# Altium footprint library con-omron.PCBLIB: 109 footprints (part 6 of 8)
Each footprint in its own frame and in the unit in brackets; x right, y up, seen from the top. Pads: shape width x height; smd on the part's side, far side on the other; paste and mask are expansions set on the pad; w line width, h text height; cw(c..) or ccw(c..) is an arc to the next point about the centre after c.
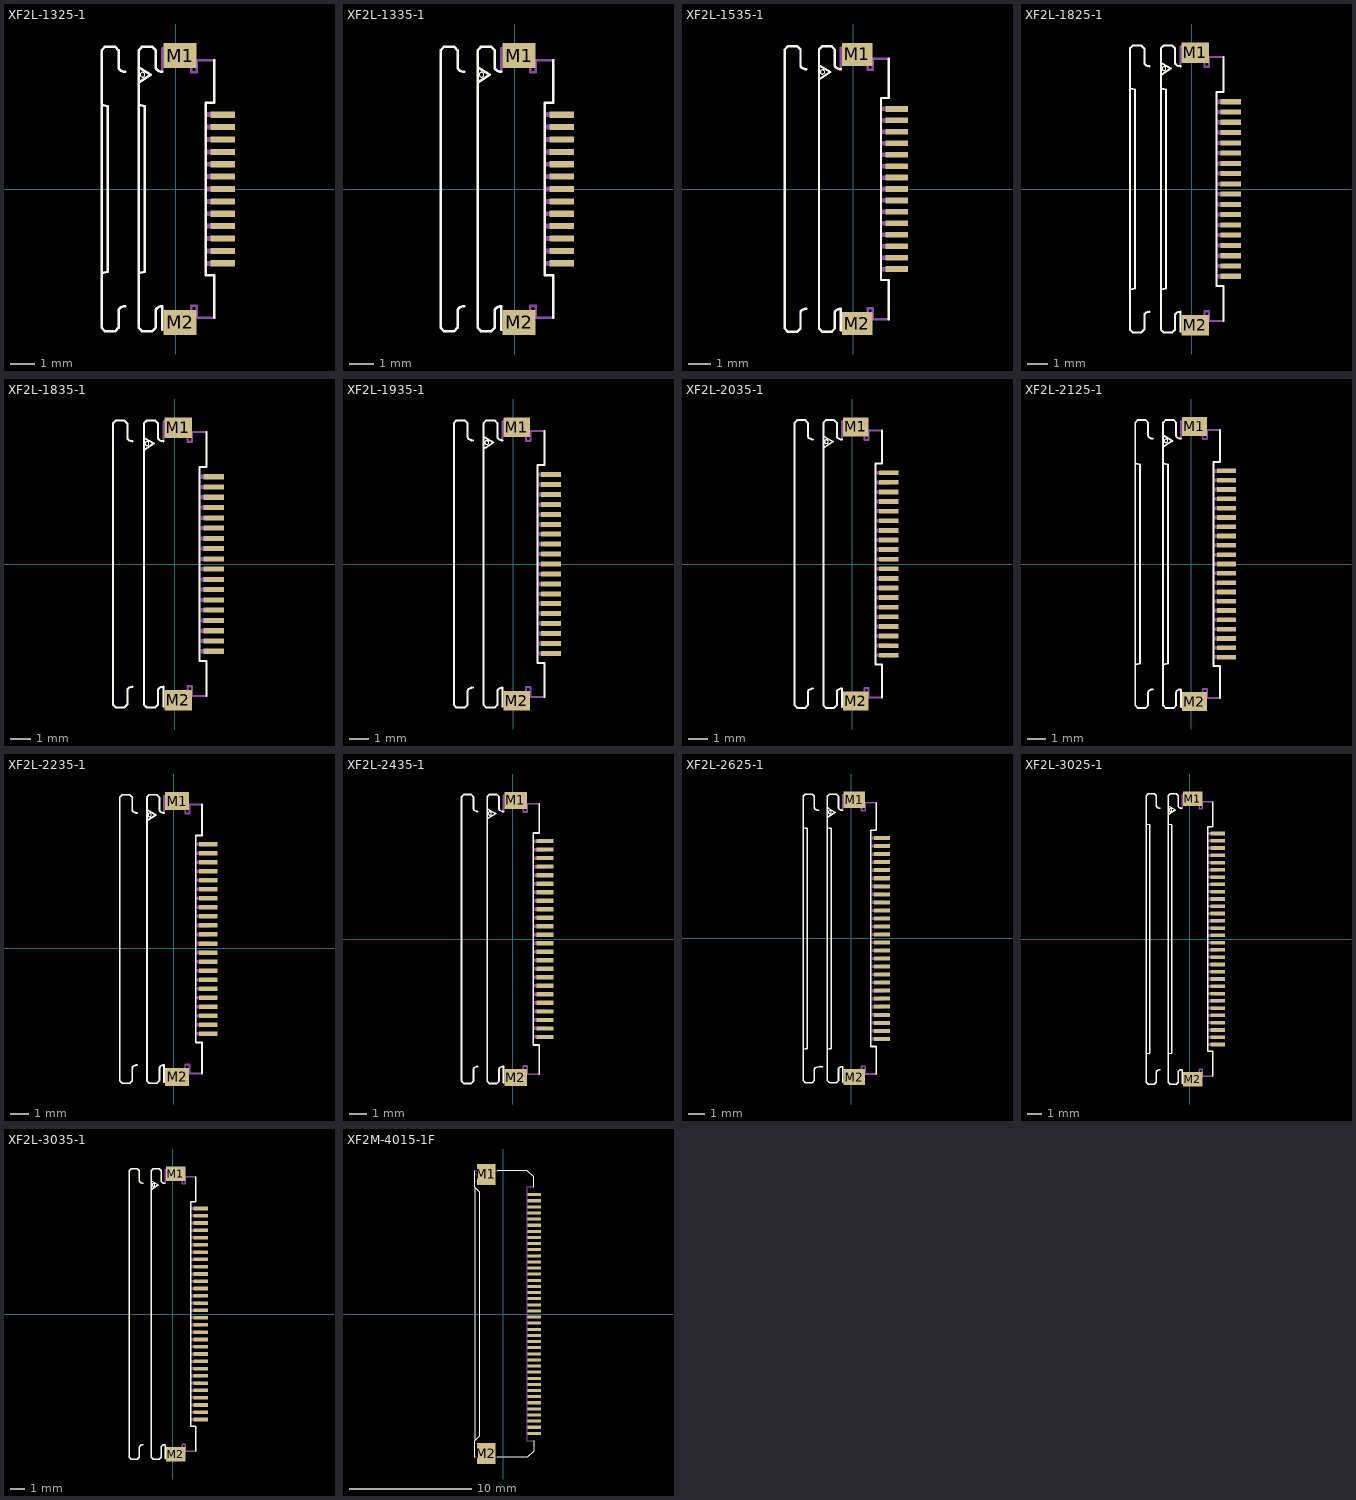
[diagram p5: the footprints below, top view; thin cyan lines are the x and y axes]

## XF2L-1325-1 [mm]
pads (15):
  rect 1x0.25 smd: 1(1.905,3) 2(1.905,2.5) 3(1.905,2) 4(1.905,1.5) 5(1.905,1) 6(1.905,0.5) 7(1.905,0) 8(1.905,-0.5) 9(1.905,-1) 10(1.905,-1.5) 11(1.905,-2) 12(1.905,-2.5) 13(1.905,-3)
  rect 1.34x1 smd: M1(0.18,5.388) M2(0.18,-5.388)
Top Overlay:
  circle w0: c-1.341,4.617 r0.095
  lines w0.102: -2.995,-3.4 -2.745,-3.35 -2.745,3.35 -2.995,3.4 ; -2.04,-4.73 ccw(c-2.04,-5.069) -2.253,-4.806 ccw(c-2.173,-4.906) -2.301,-4.906 -2.301,-5.598 -2.438,-5.735 -2.865,-5.735 -2.995,-5.6 -2.995,5.6 -2.865,5.735 -2.438,5.735 -2.301,5.598 -2.301,4.906 ccw(c-2.173,4.906) -2.253,4.806 ccw(c-2.04,5.069) -2.04,4.73 ; -1.495,-3.4 -1.245,-3.35 -1.245,3.35 -1.495,3.4 ; -1.441,4.332 -1.005,4.617 -1.441,4.872 ; -0.54,-5.683 -0.54,-4.73 ccw(c-0.54,-5.069) -0.754,-4.806 ccw(c-0.673,-4.906) -0.801,-4.906 -0.801,-5.598 -0.939,-5.735 -1.365,-5.735 -1.495,-5.6 -1.495,5.6 -1.365,5.735 -0.939,5.735 -0.801,5.598 -0.801,4.906 ccw(c-0.673,4.906) -0.754,4.806 ccw(c-0.54,5.069) -0.54,4.73 ; 1.538,3.479 1.213,3.479 1.213,-3.479 1.559,-3.479 1.559,-5.19 ; 1.559,3.479 1.559,5.19
Top Solder:
  rectangle: 1.355,2.825 2.455,3.175
  rectangle: 1.355,2.325 2.455,2.675
  rectangle: 1.355,1.825 2.455,2.175
  rectangle: 1.355,1.325 2.455,1.675
  rectangle: 1.355,0.825 2.455,1.175
  rectangle: 1.355,0.325 2.455,0.675
  rectangle: 1.355,-0.175 2.455,0.175
  rectangle: 1.355,-0.675 2.455,-0.325
  rectangle: 1.355,-1.175 2.455,-0.825
  rectangle: 1.355,-1.675 2.455,-1.325
  rectangle: 1.355,-2.175 2.455,-1.825
  rectangle: 1.355,-2.675 2.455,-2.325
  rectangle: 1.355,-3.175 2.455,-2.825
Mechanical 16:
  rectangle: 0.105,-5.7 0.805,-5.175
  rectangle: -0.445,-5.7 0.105,-4.9
  rectangle: 0.105,-5.7 0.805,-5.175
  rectangle: -0.445,-5.7 0.105,-4.9
  rectangle: 0.105,5.175 0.805,5.7
  rectangle: -0.445,4.9 0.105,5.7
  rectangle: 1.255,2.9 1.98,3.1
  rectangle: 1.255,2.4 1.98,2.6
  rectangle: 1.255,1.9 1.98,2.1
  rectangle: 1.255,1.4 1.98,1.6
  rectangle: 1.255,0.9 1.98,1.1
  rectangle: 1.255,0.4 1.98,0.6
  rectangle: 1.255,-0.1 1.98,0.1
  rectangle: 1.255,-0.6 1.98,-0.4
  rectangle: 1.255,-1.1 1.98,-0.9
  rectangle: 1.255,-1.6 1.98,-1.4
  rectangle: 1.255,-2.1 1.98,-1.9
  rectangle: 1.255,-2.6 1.98,-2.4
  rectangle: 1.255,-3.1 1.98,-2.9
  lines w0.102: -0.54,-5.683 0.512,-5.683 0.512,-5.2 -0.019,-5.2 -0.019,-5.053 0.63,-5.053 0.63,-4.707 0.858,-4.707 0.858,-5.19 1.559,-5.19 ; -0.54,4.73 -0.54,5.683 0.512,5.683 0.512,5.2 -0.019,5.2 -0.019,5.053 0.63,5.053 0.63,4.707 0.858,4.707 0.858,5.19 1.559,5.19
  text "Upper-contact" at -0.5,4.25 h0.35

## XF2L-1335-1 [mm]
pads (15):
  rect 1x0.25 smd: 1(1.905,3) 2(1.905,2.5) 3(1.905,2) 4(1.905,1.5) 5(1.905,1) 6(1.905,0.5) 7(1.905,0) 8(1.905,-0.5) 9(1.905,-1) 10(1.905,-1.5) 11(1.905,-2) 12(1.905,-2.5) 13(1.905,-3)
  rect 1.34x1 smd: M1(0.18,5.388) M2(0.18,-5.388)
Top Overlay:
  circle w0: c-1.341,4.617 r0.095
  lines w0.102: -2.04,-4.73 ccw(c-2.04,-5.069) -2.253,-4.806 ccw(c-2.173,-4.906) -2.301,-4.906 -2.301,-5.598 -2.438,-5.735 -2.865,-5.735 -2.995,-5.6 -2.995,5.6 -2.865,5.735 -2.438,5.735 -2.301,5.598 -2.301,4.906 ccw(c-2.173,4.906) -2.253,4.806 ccw(c-2.04,5.069) -2.04,4.73 ; -1.441,4.332 -1.005,4.617 -1.441,4.872 ; -0.54,-5.683 -0.54,-4.73 ccw(c-0.54,-5.069) -0.754,-4.806 ccw(c-0.673,-4.906) -0.801,-4.906 -0.801,-5.598 -0.939,-5.735 -1.365,-5.735 -1.495,-5.6 -1.495,5.6 -1.365,5.735 -0.939,5.735 -0.801,5.598 -0.801,4.906 ccw(c-0.673,4.906) -0.754,4.806 ccw(c-0.54,5.069) -0.54,4.73 ; 1.538,3.479 1.213,3.479 1.213,-3.479 1.559,-3.479 1.559,-5.19 ; 1.559,3.479 1.559,5.19
Top Solder:
  rectangle: 1.355,2.825 2.455,3.175
  rectangle: 1.355,2.325 2.455,2.675
  rectangle: 1.355,1.825 2.455,2.175
  rectangle: 1.355,1.325 2.455,1.675
  rectangle: 1.355,0.825 2.455,1.175
  rectangle: 1.355,0.325 2.455,0.675
  rectangle: 1.355,-0.175 2.455,0.175
  rectangle: 1.355,-0.675 2.455,-0.325
  rectangle: 1.355,-1.175 2.455,-0.825
  rectangle: 1.355,-1.675 2.455,-1.325
  rectangle: 1.355,-2.175 2.455,-1.825
  rectangle: 1.355,-2.675 2.455,-2.325
  rectangle: 1.355,-3.175 2.455,-2.825
Mechanical 16:
  rectangle: 0.105,-5.7 0.805,-5.175
  rectangle: -0.445,-5.7 0.105,-4.9
  rectangle: 0.105,-5.7 0.805,-5.175
  rectangle: -0.445,-5.7 0.105,-4.9
  rectangle: 0.105,5.175 0.805,5.7
  rectangle: -0.445,4.9 0.105,5.7
  rectangle: 1.255,2.9 1.98,3.1
  rectangle: 1.255,2.4 1.98,2.6
  rectangle: 1.255,1.9 1.98,2.1
  rectangle: 1.255,1.4 1.98,1.6
  rectangle: 1.255,0.9 1.98,1.1
  rectangle: 1.255,0.4 1.98,0.6
  rectangle: 1.255,-0.1 1.98,0.1
  rectangle: 1.255,-0.6 1.98,-0.4
  rectangle: 1.255,-1.1 1.98,-0.9
  rectangle: 1.255,-1.6 1.98,-1.4
  rectangle: 1.255,-2.1 1.98,-1.9
  rectangle: 1.255,-2.6 1.98,-2.4
  rectangle: 1.255,-3.1 1.98,-2.9
  lines w0.102: -0.54,-5.683 0.512,-5.683 0.512,-5.2 -0.019,-5.2 -0.019,-5.053 0.63,-5.053 0.63,-4.707 0.858,-4.707 0.858,-5.19 1.559,-5.19 ; -0.54,4.73 -0.54,5.683 0.512,5.683 0.512,5.2 -0.019,5.2 -0.019,5.053 0.63,5.053 0.63,4.707 0.858,4.707 0.858,5.19 1.559,5.19
  text "Lower-contact" at -0.5,4.25 h0.35

## XF2L-1535-1 [mm]
pads (17):
  rect 1x0.25 smd: 1(1.905,3.5) 2(1.905,3) 3(1.905,2.5) 4(1.905,2) 5(1.905,1.5) 6(1.905,1) 7(1.905,0.5) 8(1.905,0) 9(1.905,-0.5) 10(1.905,-1) 11(1.905,-1.5) 12(1.905,-2) 13(1.905,-2.5) 14(1.905,-3) 15(1.905,-3.5)
  rect 1.34x1 smd: M1(0.18,5.887) M2(0.18,-5.887)
Top Overlay:
  circle w0: c-1.341,5.117 r0.095
  lines w0.102: -2.04,-5.23 ccw(c-2.04,-5.569) -2.253,-5.306 ccw(c-2.173,-5.406) -2.301,-5.406 -2.301,-6.098 -2.438,-6.235 -2.865,-6.235 -2.995,-6.1 -2.995,6.1 -2.865,6.235 -2.438,6.235 -2.301,6.098 -2.301,5.406 ccw(c-2.173,5.406) -2.253,5.306 ccw(c-2.04,5.569) -2.04,5.23 ; -1.441,4.832 -1.005,5.117 -1.441,5.373 ; -0.54,-6.183 -0.54,-5.23 ccw(c-0.54,-5.569) -0.754,-5.306 ccw(c-0.673,-5.406) -0.801,-5.406 -0.801,-6.098 -0.939,-6.235 -1.365,-6.235 -1.495,-6.1 -1.495,6.1 -1.365,6.235 -0.939,6.235 -0.801,6.098 -0.801,5.406 ccw(c-0.673,5.406) -0.754,5.306 ccw(c-0.54,5.569) -0.54,5.23 ; 1.538,3.979 1.213,3.979 1.213,-3.979 1.559,-3.979 1.559,-5.69 ; 1.559,3.979 1.559,5.69
Top Solder:
  rectangle: 1.355,3.325 2.455,3.675
  rectangle: 1.355,2.825 2.455,3.175
  rectangle: 1.355,2.325 2.455,2.675
  rectangle: 1.355,1.825 2.455,2.175
  rectangle: 1.355,1.325 2.455,1.675
  rectangle: 1.355,0.825 2.455,1.175
  rectangle: 1.355,0.325 2.455,0.675
  rectangle: 1.355,-0.175 2.455,0.175
  rectangle: 1.355,-0.675 2.455,-0.325
  rectangle: 1.355,-1.175 2.455,-0.825
  rectangle: 1.355,-1.675 2.455,-1.325
  rectangle: 1.355,-2.175 2.455,-1.825
  rectangle: 1.355,-2.675 2.455,-2.325
  rectangle: 1.355,-3.175 2.455,-2.825
  rectangle: 1.355,-3.675 2.455,-3.325
Mechanical 16:
  rectangle: 0.105,-6.2 0.805,-5.675
  rectangle: -0.445,-6.2 0.105,-5.4
  rectangle: 0.105,-6.2 0.805,-5.675
  rectangle: -0.445,-6.2 0.105,-5.4
  rectangle: 0.105,5.675 0.805,6.2
  rectangle: -0.445,5.4 0.105,6.2
  rectangle: 1.255,3.4 1.98,3.6
  rectangle: 1.255,2.9 1.98,3.1
  rectangle: 1.255,2.4 1.98,2.6
  rectangle: 1.255,1.9 1.98,2.1
  rectangle: 1.255,1.4 1.98,1.6
  rectangle: 1.255,0.9 1.98,1.1
  rectangle: 1.255,0.4 1.98,0.6
  rectangle: 1.255,-0.1 1.98,0.1
  rectangle: 1.255,-0.6 1.98,-0.4
  rectangle: 1.255,-1.1 1.98,-0.9
  rectangle: 1.255,-1.6 1.98,-1.4
  rectangle: 1.255,-2.1 1.98,-1.9
  rectangle: 1.255,-2.6 1.98,-2.4
  rectangle: 1.255,-3.1 1.98,-2.9
  rectangle: 1.255,-3.6 1.98,-3.4
  lines w0.102: -0.54,-6.183 0.512,-6.183 0.512,-5.7 -0.019,-5.7 -0.019,-5.553 0.63,-5.553 0.63,-5.207 0.858,-5.207 0.858,-5.69 1.559,-5.69 ; -0.54,5.23 -0.54,6.183 0.512,6.183 0.512,5.7 -0.019,5.7 -0.019,5.553 0.63,5.553 0.63,5.207 0.858,5.207 0.858,5.69 1.559,5.69
  text "Lower-contact" at -0.5,4.75 h0.35

## XF2L-1825-1 [mm]
pads (20):
  rect 1x0.25 smd: 1(1.905,4.25) 2(1.905,3.75) 3(1.905,3.25) 4(1.905,2.75) 5(1.905,2.25) 6(1.905,1.75) 7(1.905,1.25) 8(1.905,0.75) 9(1.905,0.25) 10(1.905,-0.25) 11(1.905,-0.75) 12(1.905,-1.25) 13(1.905,-1.75) 14(1.905,-2.25) 15(1.905,-2.75) 16(1.905,-3.25) 17(1.905,-3.75) 18(1.905,-4.25)
  rect 1.34x1 smd: M1(0.18,6.638) M2(0.18,-6.638)
Top Overlay:
  circle w0: c-1.341,5.867 r0.095
  lines w0.102: -2.995,-4.9 -2.745,-4.85 -2.745,4.85 -2.995,4.9 ; -2.04,-5.98 ccw(c-2.04,-6.319) -2.253,-6.056 ccw(c-2.173,-6.156) -2.301,-6.156 -2.301,-6.848 -2.438,-6.985 -2.865,-6.985 -2.995,-6.85 -2.995,6.85 -2.865,6.985 -2.438,6.985 -2.301,6.848 -2.301,6.156 ccw(c-2.173,6.156) -2.253,6.056 ccw(c-2.04,6.319) -2.04,5.98 ; -1.495,-4.9 -1.245,-4.85 -1.245,4.85 -1.495,4.9 ; -1.441,5.582 -1.005,5.867 -1.441,6.123 ; -0.54,-6.933 -0.54,-5.98 ccw(c-0.54,-6.319) -0.754,-6.056 ccw(c-0.673,-6.156) -0.801,-6.156 -0.801,-6.848 -0.939,-6.985 -1.365,-6.985 -1.495,-6.85 -1.495,6.85 -1.365,6.985 -0.939,6.985 -0.801,6.848 -0.801,6.156 ccw(c-0.673,6.156) -0.754,6.056 ccw(c-0.54,6.319) -0.54,5.98 ; 1.538,4.729 1.213,4.729 1.213,-4.729 1.559,-4.729 1.559,-6.44 ; 1.559,4.729 1.559,6.44
Top Solder:
  rectangle: 1.355,4.075 2.455,4.425
  rectangle: 1.355,3.575 2.455,3.925
  rectangle: 1.355,3.075 2.455,3.425
  rectangle: 1.355,2.575 2.455,2.925
  rectangle: 1.355,2.075 2.455,2.425
  rectangle: 1.355,1.575 2.455,1.925
  rectangle: 1.355,1.075 2.455,1.425
  rectangle: 1.355,0.575 2.455,0.925
  rectangle: 1.355,0.075 2.455,0.425
  rectangle: 1.355,-0.425 2.455,-0.075
  rectangle: 1.355,-0.925 2.455,-0.575
  rectangle: 1.355,-1.425 2.455,-1.075
  rectangle: 1.355,-1.925 2.455,-1.575
  rectangle: 1.355,-2.425 2.455,-2.075
  rectangle: 1.355,-2.925 2.455,-2.575
  rectangle: 1.355,-3.425 2.455,-3.075
  rectangle: 1.355,-3.925 2.455,-3.575
  rectangle: 1.355,-4.425 2.455,-4.075
Mechanical 16:
  rectangle: 0.105,-6.95 0.805,-6.425
  rectangle: -0.445,-6.95 0.105,-6.15
  rectangle: 0.105,-6.95 0.805,-6.425
  rectangle: -0.445,-6.95 0.105,-6.15
  rectangle: 0.105,6.425 0.805,6.95
  rectangle: -0.445,6.15 0.105,6.95
  rectangle: 1.255,4.15 1.98,4.35
  rectangle: 1.255,3.65 1.98,3.85
  rectangle: 1.255,3.15 1.98,3.35
  rectangle: 1.255,2.65 1.98,2.85
  rectangle: 1.255,2.15 1.98,2.35
  rectangle: 1.255,1.65 1.98,1.85
  rectangle: 1.255,1.15 1.98,1.35
  rectangle: 1.255,0.65 1.98,0.85
  rectangle: 1.255,0.15 1.98,0.35
  rectangle: 1.255,-0.35 1.98,-0.15
  rectangle: 1.255,-0.85 1.98,-0.65
  rectangle: 1.255,-1.35 1.98,-1.15
  rectangle: 1.255,-1.85 1.98,-1.65
  rectangle: 1.255,-2.35 1.98,-2.15
  rectangle: 1.255,-2.85 1.98,-2.65
  rectangle: 1.255,-3.35 1.98,-3.15
  rectangle: 1.255,-3.85 1.98,-3.65
  rectangle: 1.255,-4.35 1.98,-4.15
  lines w0.102: -0.54,-6.933 0.512,-6.933 0.512,-6.45 -0.019,-6.45 -0.019,-6.303 0.63,-6.303 0.63,-5.957 0.858,-5.957 0.858,-6.44 1.559,-6.44 ; -0.54,5.98 -0.54,6.933 0.512,6.933 0.512,6.45 -0.019,6.45 -0.019,6.303 0.63,6.303 0.63,5.957 0.858,5.957 0.858,6.44 1.559,6.44
  text "Upper-contact" at -0.5,5.5 h0.35

## XF2L-1835-1 [mm]
pads (20):
  rect 1x0.25 smd: 1(1.905,4.25) 2(1.905,3.75) 3(1.905,3.25) 4(1.905,2.75) 5(1.905,2.25) 6(1.905,1.75) 7(1.905,1.25) 8(1.905,0.75) 9(1.905,0.25) 10(1.905,-0.25) 11(1.905,-0.75) 12(1.905,-1.25) 13(1.905,-1.75) 14(1.905,-2.25) 15(1.905,-2.75) 16(1.905,-3.25) 17(1.905,-3.75) 18(1.905,-4.25)
  rect 1.34x1 smd: M1(0.18,6.638) M2(0.18,-6.638)
Top Overlay:
  circle w0: c-1.341,5.867 r0.095
  lines w0.102: -2.04,-5.98 ccw(c-2.04,-6.319) -2.253,-6.056 ccw(c-2.173,-6.156) -2.301,-6.156 -2.301,-6.848 -2.438,-6.985 -2.865,-6.985 -2.995,-6.85 -2.995,6.85 -2.865,6.985 -2.438,6.985 -2.301,6.848 -2.301,6.156 ccw(c-2.173,6.156) -2.253,6.056 ccw(c-2.04,6.319) -2.04,5.98 ; -1.441,5.582 -1.005,5.867 -1.441,6.123 ; -0.54,-6.933 -0.54,-5.98 ccw(c-0.54,-6.319) -0.754,-6.056 ccw(c-0.673,-6.156) -0.801,-6.156 -0.801,-6.848 -0.939,-6.985 -1.365,-6.985 -1.495,-6.85 -1.495,6.85 -1.365,6.985 -0.939,6.985 -0.801,6.848 -0.801,6.156 ccw(c-0.673,6.156) -0.754,6.056 ccw(c-0.54,6.319) -0.54,5.98 ; 1.538,4.729 1.213,4.729 1.213,-4.729 1.559,-4.729 1.559,-6.44 ; 1.559,4.729 1.559,6.44
Top Solder:
  rectangle: 1.355,4.075 2.455,4.425
  rectangle: 1.355,3.575 2.455,3.925
  rectangle: 1.355,3.075 2.455,3.425
  rectangle: 1.355,2.575 2.455,2.925
  rectangle: 1.355,2.075 2.455,2.425
  rectangle: 1.355,1.575 2.455,1.925
  rectangle: 1.355,1.075 2.455,1.425
  rectangle: 1.355,0.575 2.455,0.925
  rectangle: 1.355,0.075 2.455,0.425
  rectangle: 1.355,-0.425 2.455,-0.075
  rectangle: 1.355,-0.925 2.455,-0.575
  rectangle: 1.355,-1.425 2.455,-1.075
  rectangle: 1.355,-1.925 2.455,-1.575
  rectangle: 1.355,-2.425 2.455,-2.075
  rectangle: 1.355,-2.925 2.455,-2.575
  rectangle: 1.355,-3.425 2.455,-3.075
  rectangle: 1.355,-3.925 2.455,-3.575
  rectangle: 1.355,-4.425 2.455,-4.075
Mechanical 16:
  rectangle: 0.105,-6.95 0.805,-6.425
  rectangle: -0.445,-6.95 0.105,-6.15
  rectangle: 0.105,-6.95 0.805,-6.425
  rectangle: -0.445,-6.95 0.105,-6.15
  rectangle: 0.105,6.425 0.805,6.95
  rectangle: -0.445,6.15 0.105,6.95
  rectangle: 1.255,4.15 1.98,4.35
  rectangle: 1.255,3.65 1.98,3.85
  rectangle: 1.255,3.15 1.98,3.35
  rectangle: 1.255,2.65 1.98,2.85
  rectangle: 1.255,2.15 1.98,2.35
  rectangle: 1.255,1.65 1.98,1.85
  rectangle: 1.255,1.15 1.98,1.35
  rectangle: 1.255,0.65 1.98,0.85
  rectangle: 1.255,0.15 1.98,0.35
  rectangle: 1.255,-0.35 1.98,-0.15
  rectangle: 1.255,-0.85 1.98,-0.65
  rectangle: 1.255,-1.35 1.98,-1.15
  rectangle: 1.255,-1.85 1.98,-1.65
  rectangle: 1.255,-2.35 1.98,-2.15
  rectangle: 1.255,-2.85 1.98,-2.65
  rectangle: 1.255,-3.35 1.98,-3.15
  rectangle: 1.255,-3.85 1.98,-3.65
  rectangle: 1.255,-4.35 1.98,-4.15
  lines w0.102: -0.54,-6.933 0.512,-6.933 0.512,-6.45 -0.019,-6.45 -0.019,-6.303 0.63,-6.303 0.63,-5.957 0.858,-5.957 0.858,-6.44 1.559,-6.44 ; -0.54,5.98 -0.54,6.933 0.512,6.933 0.512,6.45 -0.019,6.45 -0.019,6.303 0.63,6.303 0.63,5.957 0.858,5.957 0.858,6.44 1.559,6.44
  text "Lower-contact" at -0.5,5.5 h0.35

## XF2L-1935-1 [mm]
pads (21):
  rect 1x0.25 smd: 1(1.905,4.5) 2(1.905,4) 3(1.905,3.5) 4(1.905,3) 5(1.905,2.5) 6(1.905,2) 7(1.905,1.5) 8(1.905,1) 9(1.905,0.5) 10(1.905,0) 11(1.905,-0.5) 12(1.905,-1) 13(1.905,-1.5) 14(1.905,-2) 15(1.905,-2.5) 16(1.905,-3) 17(1.905,-3.5) 18(1.905,-4) 19(1.905,-4.5)
  rect 1.34x1 smd: M1(0.18,6.887) M2(0.18,-6.887)
Top Overlay:
  circle w0: c-1.341,6.117 r0.095
  lines w0.102: -2.04,-6.23 ccw(c-2.04,-6.569) -2.253,-6.306 ccw(c-2.173,-6.406) -2.301,-6.406 -2.301,-7.098 -2.438,-7.235 -2.865,-7.235 -2.995,-7.1 -2.995,7.1 -2.865,7.235 -2.438,7.235 -2.301,7.098 -2.301,6.406 ccw(c-2.173,6.406) -2.253,6.306 ccw(c-2.04,6.569) -2.04,6.23 ; -1.441,5.832 -1.005,6.117 -1.441,6.373 ; -0.54,-7.183 -0.54,-6.23 ccw(c-0.54,-6.569) -0.754,-6.306 ccw(c-0.673,-6.406) -0.801,-6.406 -0.801,-7.098 -0.939,-7.235 -1.365,-7.235 -1.495,-7.1 -1.495,7.1 -1.365,7.235 -0.939,7.235 -0.801,7.098 -0.801,6.406 ccw(c-0.673,6.406) -0.754,6.306 ccw(c-0.54,6.569) -0.54,6.23 ; 1.538,4.979 1.213,4.979 1.213,-4.979 1.559,-4.979 1.559,-6.69 ; 1.559,4.979 1.559,6.69
Top Solder:
  rectangle: 1.355,4.325 2.455,4.675
  rectangle: 1.355,3.825 2.455,4.175
  rectangle: 1.355,3.325 2.455,3.675
  rectangle: 1.355,2.825 2.455,3.175
  rectangle: 1.355,2.325 2.455,2.675
  rectangle: 1.355,1.825 2.455,2.175
  rectangle: 1.355,1.325 2.455,1.675
  rectangle: 1.355,0.825 2.455,1.175
  rectangle: 1.355,0.325 2.455,0.675
  rectangle: 1.355,-0.175 2.455,0.175
  rectangle: 1.355,-0.675 2.455,-0.325
  rectangle: 1.355,-1.175 2.455,-0.825
  rectangle: 1.355,-1.675 2.455,-1.325
  rectangle: 1.355,-2.175 2.455,-1.825
  rectangle: 1.355,-2.675 2.455,-2.325
  rectangle: 1.355,-3.175 2.455,-2.825
  rectangle: 1.355,-3.675 2.455,-3.325
  rectangle: 1.355,-4.175 2.455,-3.825
  rectangle: 1.355,-4.675 2.455,-4.325
Mechanical 16:
  rectangle: 0.105,-7.2 0.805,-6.675
  rectangle: -0.445,-7.2 0.105,-6.4
  rectangle: 0.105,-7.2 0.805,-6.675
  rectangle: -0.445,-7.2 0.105,-6.4
  rectangle: 0.105,6.675 0.805,7.2
  rectangle: -0.445,6.4 0.105,7.2
  rectangle: 1.255,4.4 1.98,4.6
  rectangle: 1.255,3.9 1.98,4.1
  rectangle: 1.255,3.4 1.98,3.6
  rectangle: 1.255,2.9 1.98,3.1
  rectangle: 1.255,2.4 1.98,2.6
  rectangle: 1.255,1.9 1.98,2.1
  rectangle: 1.255,1.4 1.98,1.6
  rectangle: 1.255,0.9 1.98,1.1
  rectangle: 1.255,0.4 1.98,0.6
  rectangle: 1.255,-0.1 1.98,0.1
  rectangle: 1.255,-0.6 1.98,-0.4
  rectangle: 1.255,-1.1 1.98,-0.9
  rectangle: 1.255,-1.6 1.98,-1.4
  rectangle: 1.255,-2.1 1.98,-1.9
  rectangle: 1.255,-2.6 1.98,-2.4
  rectangle: 1.255,-3.1 1.98,-2.9
  rectangle: 1.255,-3.6 1.98,-3.4
  rectangle: 1.255,-4.1 1.98,-3.9
  rectangle: 1.255,-4.6 1.98,-4.4
  lines w0.102: -0.54,-7.183 0.512,-7.183 0.512,-6.7 -0.019,-6.7 -0.019,-6.553 0.63,-6.553 0.63,-6.207 0.858,-6.207 0.858,-6.69 1.559,-6.69 ; -0.54,6.23 -0.54,7.183 0.512,7.183 0.512,6.7 -0.019,6.7 -0.019,6.553 0.63,6.553 0.63,6.207 0.858,6.207 0.858,6.69 1.559,6.69
  text "Lower-contact" at -0.5,5.75 h0.35

## XF2L-2035-1 [mm]
pads (22):
  rect 1x0.25 smd: 1(1.905,4.75) 2(1.905,4.25) 3(1.905,3.75) 4(1.905,3.25) 5(1.905,2.75) 6(1.905,2.25) 7(1.905,1.75) 8(1.905,1.25) 9(1.905,0.75) 10(1.905,0.25) 11(1.905,-0.25) 12(1.905,-0.75) 13(1.905,-1.25) 14(1.905,-1.75) 15(1.905,-2.25) 16(1.905,-2.75) 17(1.905,-3.25) 18(1.905,-3.75) 19(1.905,-4.25) 20(1.905,-4.75)
  rect 1.34x1 smd: M1(0.18,7.137) M2(0.18,-7.137)
Top Overlay:
  circle w0: c-1.341,6.367 r0.095
  lines w0.102: -2.04,-6.48 ccw(c-2.04,-6.819) -2.253,-6.556 ccw(c-2.173,-6.656) -2.301,-6.656 -2.301,-7.348 -2.438,-7.485 -2.865,-7.485 -2.995,-7.35 -2.995,7.35 -2.865,7.485 -2.438,7.485 -2.301,7.348 -2.301,6.656 ccw(c-2.173,6.656) -2.253,6.556 ccw(c-2.04,6.819) -2.04,6.48 ; -1.441,6.082 -1.005,6.367 -1.441,6.623 ; -0.54,-7.433 -0.54,-6.48 ccw(c-0.54,-6.819) -0.754,-6.556 ccw(c-0.673,-6.656) -0.801,-6.656 -0.801,-7.348 -0.939,-7.485 -1.365,-7.485 -1.495,-7.35 -1.495,7.35 -1.365,7.485 -0.939,7.485 -0.801,7.348 -0.801,6.656 ccw(c-0.673,6.656) -0.754,6.556 ccw(c-0.54,6.819) -0.54,6.48 ; 1.538,5.229 1.213,5.229 1.213,-5.229 1.559,-5.229 1.559,-6.94 ; 1.559,5.229 1.559,6.94
Top Solder:
  rectangle: 1.355,4.575 2.455,4.925
  rectangle: 1.355,4.075 2.455,4.425
  rectangle: 1.355,3.575 2.455,3.925
  rectangle: 1.355,3.075 2.455,3.425
  rectangle: 1.355,2.575 2.455,2.925
  rectangle: 1.355,2.075 2.455,2.425
  rectangle: 1.355,1.575 2.455,1.925
  rectangle: 1.355,1.075 2.455,1.425
  rectangle: 1.355,0.575 2.455,0.925
  rectangle: 1.355,0.075 2.455,0.425
  rectangle: 1.355,-0.425 2.455,-0.075
  rectangle: 1.355,-0.925 2.455,-0.575
  rectangle: 1.355,-1.425 2.455,-1.075
  rectangle: 1.355,-1.925 2.455,-1.575
  rectangle: 1.355,-2.425 2.455,-2.075
  rectangle: 1.355,-2.925 2.455,-2.575
  rectangle: 1.355,-3.425 2.455,-3.075
  rectangle: 1.355,-3.925 2.455,-3.575
  rectangle: 1.355,-4.425 2.455,-4.075
  rectangle: 1.355,-4.925 2.455,-4.575
Mechanical 16:
  rectangle: 0.105,-7.45 0.805,-6.925
  rectangle: -0.445,-7.45 0.105,-6.65
  rectangle: 0.105,-7.45 0.805,-6.925
  rectangle: -0.445,-7.45 0.105,-6.65
  rectangle: 0.105,6.925 0.805,7.45
  rectangle: -0.445,6.65 0.105,7.45
  rectangle: 1.255,4.65 1.98,4.85
  rectangle: 1.255,4.15 1.98,4.35
  rectangle: 1.255,3.65 1.98,3.85
  rectangle: 1.255,3.15 1.98,3.35
  rectangle: 1.255,2.65 1.98,2.85
  rectangle: 1.255,2.15 1.98,2.35
  rectangle: 1.255,1.65 1.98,1.85
  rectangle: 1.255,1.15 1.98,1.35
  rectangle: 1.255,0.65 1.98,0.85
  rectangle: 1.255,0.15 1.98,0.35
  rectangle: 1.255,-0.35 1.98,-0.15
  rectangle: 1.255,-0.85 1.98,-0.65
  rectangle: 1.255,-1.35 1.98,-1.15
  rectangle: 1.255,-1.85 1.98,-1.65
  rectangle: 1.255,-2.35 1.98,-2.15
  rectangle: 1.255,-2.85 1.98,-2.65
  rectangle: 1.255,-3.35 1.98,-3.15
  rectangle: 1.255,-3.85 1.98,-3.65
  rectangle: 1.255,-4.35 1.98,-4.15
  rectangle: 1.255,-4.85 1.98,-4.65
  lines w0.102: -0.54,-7.433 0.512,-7.433 0.512,-6.95 -0.019,-6.95 -0.019,-6.803 0.63,-6.803 0.63,-6.457 0.858,-6.457 0.858,-6.94 1.559,-6.94 ; -0.54,6.48 -0.54,7.433 0.512,7.433 0.512,6.95 -0.019,6.95 -0.019,6.803 0.63,6.803 0.63,6.457 0.858,6.457 0.858,6.94 1.559,6.94
  text "Lower-contact" at -0.5,6 h0.35

## XF2L-2125-1 [mm]
pads (23):
  rect 1x0.25 smd: 1(1.905,5) 2(1.905,4.5) 3(1.905,4) 4(1.905,3.5) 5(1.905,3) 6(1.905,2.5) 7(1.905,2) 8(1.905,1.5) 9(1.905,1) 10(1.905,0.5) 11(1.905,0) 12(1.905,-0.5) 13(1.905,-1) 14(1.905,-1.5) 15(1.905,-2) 16(1.905,-2.5) 17(1.905,-3) 18(1.905,-3.5) 19(1.905,-4) 20(1.905,-4.5) 21(1.905,-5)
  rect 1.34x1 smd: M1(0.18,7.388) M2(0.18,-7.388)
Top Overlay:
  circle w0: c-1.341,6.617 r0.095
  lines w0.102: -2.995,-5.4 -2.745,-5.35 -2.745,5.35 -2.995,5.4 ; -2.04,-6.73 ccw(c-2.04,-7.069) -2.253,-6.806 ccw(c-2.173,-6.906) -2.301,-6.906 -2.301,-7.598 -2.438,-7.735 -2.865,-7.735 -2.995,-7.6 -2.995,7.6 -2.865,7.735 -2.438,7.735 -2.301,7.598 -2.301,6.906 ccw(c-2.173,6.906) -2.253,6.806 ccw(c-2.04,7.069) -2.04,6.73 ; -1.495,-5.4 -1.245,-5.35 -1.245,5.35 -1.495,5.4 ; -1.441,6.332 -1.005,6.617 -1.441,6.872 ; -0.54,-7.683 -0.54,-6.73 ccw(c-0.54,-7.069) -0.754,-6.806 ccw(c-0.673,-6.906) -0.801,-6.906 -0.801,-7.598 -0.939,-7.735 -1.365,-7.735 -1.495,-7.6 -1.495,7.6 -1.365,7.735 -0.939,7.735 -0.801,7.598 -0.801,6.906 ccw(c-0.673,6.906) -0.754,6.806 ccw(c-0.54,7.069) -0.54,6.73 ; 1.538,5.479 1.213,5.479 1.213,-5.479 1.559,-5.479 1.559,-7.19 ; 1.559,5.479 1.559,7.19
Top Solder:
  rectangle: 1.355,4.825 2.455,5.175
  rectangle: 1.355,4.325 2.455,4.675
  rectangle: 1.355,3.825 2.455,4.175
  rectangle: 1.355,3.325 2.455,3.675
  rectangle: 1.355,2.825 2.455,3.175
  rectangle: 1.355,2.325 2.455,2.675
  rectangle: 1.355,1.825 2.455,2.175
  rectangle: 1.355,1.325 2.455,1.675
  rectangle: 1.355,0.825 2.455,1.175
  rectangle: 1.355,0.325 2.455,0.675
  rectangle: 1.355,-0.175 2.455,0.175
  rectangle: 1.355,-0.675 2.455,-0.325
  rectangle: 1.355,-1.175 2.455,-0.825
  rectangle: 1.355,-1.675 2.455,-1.325
  rectangle: 1.355,-2.175 2.455,-1.825
  rectangle: 1.355,-2.675 2.455,-2.325
  rectangle: 1.355,-3.175 2.455,-2.825
  rectangle: 1.355,-3.675 2.455,-3.325
  rectangle: 1.355,-4.175 2.455,-3.825
  rectangle: 1.355,-4.675 2.455,-4.325
  rectangle: 1.355,-5.175 2.455,-4.825
Mechanical 16:
  rectangle: 0.105,-7.7 0.805,-7.175
  rectangle: -0.445,-7.7 0.105,-6.9
  rectangle: 0.105,-7.7 0.805,-7.175
  rectangle: -0.445,-7.7 0.105,-6.9
  rectangle: 0.105,7.175 0.805,7.7
  rectangle: -0.445,6.9 0.105,7.7
  rectangle: 1.255,4.9 1.98,5.1
  rectangle: 1.255,4.4 1.98,4.6
  rectangle: 1.255,3.9 1.98,4.1
  rectangle: 1.255,3.4 1.98,3.6
  rectangle: 1.255,2.9 1.98,3.1
  rectangle: 1.255,2.4 1.98,2.6
  rectangle: 1.255,1.9 1.98,2.1
  rectangle: 1.255,1.4 1.98,1.6
  rectangle: 1.255,0.9 1.98,1.1
  rectangle: 1.255,0.4 1.98,0.6
  rectangle: 1.255,-0.1 1.98,0.1
  rectangle: 1.255,-0.6 1.98,-0.4
  rectangle: 1.255,-1.1 1.98,-0.9
  rectangle: 1.255,-1.6 1.98,-1.4
  rectangle: 1.255,-2.1 1.98,-1.9
  rectangle: 1.255,-2.6 1.98,-2.4
  rectangle: 1.255,-3.1 1.98,-2.9
  rectangle: 1.255,-3.6 1.98,-3.4
  rectangle: 1.255,-4.1 1.98,-3.9
  rectangle: 1.255,-4.6 1.98,-4.4
  rectangle: 1.255,-5.1 1.98,-4.9
  lines w0.102: -0.54,-7.683 0.512,-7.683 0.512,-7.2 -0.019,-7.2 -0.019,-7.053 0.63,-7.053 0.63,-6.707 0.858,-6.707 0.858,-7.19 1.559,-7.19 ; -0.54,6.73 -0.54,7.683 0.512,7.683 0.512,7.2 -0.019,7.2 -0.019,7.053 0.63,7.053 0.63,6.707 0.858,6.707 0.858,7.19 1.559,7.19
  text "Upper-contact" at -0.5,6.5 h0.35

## XF2L-2235-1 [mm]
pads (24):
  rect 1x0.25 smd: 1(1.905,5.75) 2(1.905,5.25) 3(1.905,4.75) 4(1.905,4.25) 5(1.905,3.75) 6(1.905,3.25) 7(1.905,2.75) 8(1.905,2.25) 9(1.905,1.75) 10(1.905,1.25) 11(1.905,0.75) 12(1.905,0.25) 13(1.905,-0.25) 14(1.905,-0.75) 15(1.905,-1.25) 16(1.905,-1.75) 17(1.905,-2.25) 18(1.905,-2.75) 19(1.905,-3.25) 20(1.905,-3.75) 21(1.905,-4.25) 22(1.905,-4.75)
  rect 1.34x1 smd: M1(0.18,8.137) M2(0.18,-7.137)
Top Overlay:
  circle w0: c-1.341,7.367 r0.095
  lines w0.102: -2.04,-6.48 ccw(c-2.04,-6.819) -2.253,-6.556 ccw(c-2.173,-6.656) -2.301,-6.656 -2.301,-7.348 -2.438,-7.485 -2.865,-7.485 -2.995,-7.35 -2.995,8.35 -2.865,8.485 -2.438,8.485 -2.301,8.348 -2.301,7.656 ccw(c-2.173,7.656) -2.253,7.556 ccw(c-2.04,7.818) -2.04,7.48 ; -1.441,7.082 -1.005,7.367 -1.441,7.623 ; -0.54,-7.433 -0.54,-6.48 ccw(c-0.54,-6.819) -0.754,-6.556 ccw(c-0.673,-6.656) -0.801,-6.656 -0.801,-7.348 -0.939,-7.485 -1.365,-7.485 -1.495,-7.35 -1.495,8.35 -1.365,8.485 -0.939,8.485 -0.801,8.348 -0.801,7.656 ccw(c-0.673,7.656) -0.754,7.556 ccw(c-0.54,7.819) -0.54,7.48 ; 1.538,6.229 1.213,6.229 1.213,-5.229 1.559,-5.229 1.559,-6.94 ; 1.559,6.229 1.559,7.94
Top Solder:
  rectangle: 1.355,5.575 2.455,5.925
  rectangle: 1.355,5.075 2.455,5.425
  rectangle: 1.355,4.575 2.455,4.925
  rectangle: 1.355,4.075 2.455,4.425
  rectangle: 1.355,3.575 2.455,3.925
  rectangle: 1.355,3.075 2.455,3.425
  rectangle: 1.355,2.575 2.455,2.925
  rectangle: 1.355,2.075 2.455,2.425
  rectangle: 1.355,1.575 2.455,1.925
  rectangle: 1.355,1.075 2.455,1.425
  rectangle: 1.355,0.575 2.455,0.925
  rectangle: 1.355,0.075 2.455,0.425
  rectangle: 1.355,-0.425 2.455,-0.075
  rectangle: 1.355,-0.925 2.455,-0.575
  rectangle: 1.355,-1.425 2.455,-1.075
  rectangle: 1.355,-1.925 2.455,-1.575
  rectangle: 1.355,-2.425 2.455,-2.075
  rectangle: 1.355,-2.925 2.455,-2.575
  rectangle: 1.355,-3.425 2.455,-3.075
  rectangle: 1.355,-3.925 2.455,-3.575
  rectangle: 1.355,-4.425 2.455,-4.075
  rectangle: 1.355,-4.925 2.455,-4.575
Mechanical 16:
  rectangle: 0.105,-7.45 0.805,-6.925
  rectangle: -0.445,-7.45 0.105,-6.65
  rectangle: 0.105,-7.45 0.805,-6.925
  rectangle: -0.445,-7.45 0.105,-6.65
  rectangle: 0.105,7.925 0.805,8.45
  rectangle: -0.445,7.65 0.105,8.45
  rectangle: 1.255,5.65 1.98,5.85
  rectangle: 1.255,5.15 1.98,5.35
  rectangle: 1.255,4.65 1.98,4.85
  rectangle: 1.255,4.15 1.98,4.35
  rectangle: 1.255,3.65 1.98,3.85
  rectangle: 1.255,3.15 1.98,3.35
  rectangle: 1.255,2.65 1.98,2.85
  rectangle: 1.255,2.15 1.98,2.35
  rectangle: 1.255,1.65 1.98,1.85
  rectangle: 1.255,1.15 1.98,1.35
  rectangle: 1.255,0.65 1.98,0.85
  rectangle: 1.255,0.15 1.98,0.35
  rectangle: 1.255,-0.35 1.98,-0.15
  rectangle: 1.255,-0.85 1.98,-0.65
  rectangle: 1.255,-1.35 1.98,-1.15
  rectangle: 1.255,-1.85 1.98,-1.65
  rectangle: 1.255,-2.35 1.98,-2.15
  rectangle: 1.255,-2.85 1.98,-2.65
  rectangle: 1.255,-3.35 1.98,-3.15
  rectangle: 1.255,-3.85 1.98,-3.65
  rectangle: 1.255,-4.35 1.98,-4.15
  rectangle: 1.255,-4.85 1.98,-4.65
  lines w0.102: -0.54,-7.433 0.512,-7.433 0.512,-6.95 -0.019,-6.95 -0.019,-6.803 0.63,-6.803 0.63,-6.457 0.858,-6.457 0.858,-6.94 1.559,-6.94 ; -0.54,7.48 -0.54,8.433 0.512,8.433 0.512,7.95 -0.019,7.95 -0.019,7.803 0.63,7.803 0.63,7.457 0.858,7.457 0.858,7.94 1.559,7.94
  text "Lower-contact" at -0.5,7 h0.35

## XF2L-2435-1 [mm]
pads (26):
  rect 1x0.25 smd: 1(1.905,5.75) 2(1.905,5.25) 3(1.905,4.75) 4(1.905,4.25) 5(1.905,3.75) 6(1.905,3.25) 7(1.905,2.75) 8(1.905,2.25) 9(1.905,1.75) 10(1.905,1.25) 11(1.905,0.75) 12(1.905,0.25) 13(1.905,-0.25) 14(1.905,-0.75) 15(1.905,-1.25) 16(1.905,-1.75) 17(1.905,-2.25) 18(1.905,-2.75) 19(1.905,-3.25) 20(1.905,-3.75) 21(1.905,-4.25) 22(1.905,-4.75) 23(1.905,-5.25) 24(1.905,-5.75)
  rect 1.34x1 smd: M1(0.18,8.137) M2(0.18,-8.137)
Top Overlay:
  circle w0: c-1.341,7.367 r0.095
  lines w0.102: -2.04,-7.48 ccw(c-2.04,-7.818) -2.253,-7.556 ccw(c-2.173,-7.656) -2.301,-7.656 -2.301,-8.348 -2.438,-8.485 -2.865,-8.485 -2.995,-8.35 -2.995,8.35 -2.865,8.485 -2.438,8.485 -2.301,8.348 -2.301,7.656 ccw(c-2.173,7.656) -2.253,7.556 ccw(c-2.04,7.818) -2.04,7.48 ; -1.441,7.082 -1.005,7.367 -1.441,7.623 ; -0.54,-8.433 -0.54,-7.48 ccw(c-0.54,-7.819) -0.754,-7.556 ccw(c-0.673,-7.656) -0.801,-7.656 -0.801,-8.348 -0.939,-8.485 -1.365,-8.485 -1.495,-8.35 -1.495,8.35 -1.365,8.485 -0.939,8.485 -0.801,8.348 -0.801,7.656 ccw(c-0.673,7.656) -0.754,7.556 ccw(c-0.54,7.819) -0.54,7.48 ; 1.538,6.229 1.213,6.229 1.213,-6.229 1.559,-6.229 1.559,-7.94 ; 1.559,6.229 1.559,7.94
Top Solder:
  rectangle: 1.355,5.575 2.455,5.925
  rectangle: 1.355,5.075 2.455,5.425
  rectangle: 1.355,4.575 2.455,4.925
  rectangle: 1.355,4.075 2.455,4.425
  rectangle: 1.355,3.575 2.455,3.925
  rectangle: 1.355,3.075 2.455,3.425
  rectangle: 1.355,2.575 2.455,2.925
  rectangle: 1.355,2.075 2.455,2.425
  rectangle: 1.355,1.575 2.455,1.925
  rectangle: 1.355,1.075 2.455,1.425
  rectangle: 1.355,0.575 2.455,0.925
  rectangle: 1.355,0.075 2.455,0.425
  rectangle: 1.355,-0.425 2.455,-0.075
  rectangle: 1.355,-0.925 2.455,-0.575
  rectangle: 1.355,-1.425 2.455,-1.075
  rectangle: 1.355,-1.925 2.455,-1.575
  rectangle: 1.355,-2.425 2.455,-2.075
  rectangle: 1.355,-2.925 2.455,-2.575
  rectangle: 1.355,-3.425 2.455,-3.075
  rectangle: 1.355,-3.925 2.455,-3.575
  rectangle: 1.355,-4.425 2.455,-4.075
  rectangle: 1.355,-4.925 2.455,-4.575
  rectangle: 1.355,-5.425 2.455,-5.075
  rectangle: 1.355,-5.925 2.455,-5.575
Mechanical 16:
  rectangle: 0.105,-8.45 0.805,-7.925
  rectangle: -0.445,-8.45 0.105,-7.65
  rectangle: 0.105,-8.45 0.805,-7.925
  rectangle: -0.445,-8.45 0.105,-7.65
  rectangle: 0.105,7.925 0.805,8.45
  rectangle: -0.445,7.65 0.105,8.45
  rectangle: 1.255,5.65 1.98,5.85
  rectangle: 1.255,5.15 1.98,5.35
  rectangle: 1.255,4.65 1.98,4.85
  rectangle: 1.255,4.15 1.98,4.35
  rectangle: 1.255,3.65 1.98,3.85
  rectangle: 1.255,3.15 1.98,3.35
  rectangle: 1.255,2.65 1.98,2.85
  rectangle: 1.255,2.15 1.98,2.35
  rectangle: 1.255,1.65 1.98,1.85
  rectangle: 1.255,1.15 1.98,1.35
  rectangle: 1.255,0.65 1.98,0.85
  rectangle: 1.255,0.15 1.98,0.35
  rectangle: 1.255,-0.35 1.98,-0.15
  rectangle: 1.255,-0.85 1.98,-0.65
  rectangle: 1.255,-1.35 1.98,-1.15
  rectangle: 1.255,-1.85 1.98,-1.65
  rectangle: 1.255,-2.35 1.98,-2.15
  rectangle: 1.255,-2.85 1.98,-2.65
  rectangle: 1.255,-3.35 1.98,-3.15
  rectangle: 1.255,-3.85 1.98,-3.65
  rectangle: 1.255,-4.35 1.98,-4.15
  rectangle: 1.255,-4.85 1.98,-4.65
  rectangle: 1.255,-5.35 1.98,-5.15
  rectangle: 1.255,-5.85 1.98,-5.65
  lines w0.102: -0.54,-8.433 0.512,-8.433 0.512,-7.95 -0.019,-7.95 -0.019,-7.803 0.63,-7.803 0.63,-7.457 0.858,-7.457 0.858,-7.94 1.559,-7.94 ; -0.54,7.48 -0.54,8.433 0.512,8.433 0.512,7.95 -0.019,7.95 -0.019,7.803 0.63,7.803 0.63,7.457 0.858,7.457 0.858,7.94 1.559,7.94
  text "Lower-contact" at -0.5,7 h0.35

## XF2L-2625-1 [mm]
pads (28):
  rect 1x0.25 smd: 1(1.905,6.25) 2(1.905,5.75) 3(1.905,5.25) 4(1.905,4.75) 5(1.905,4.25) 6(1.905,3.75) 7(1.905,3.25) 8(1.905,2.75) 9(1.905,2.25) 10(1.905,1.75) 11(1.905,1.25) 12(1.905,0.75) 13(1.905,0.25) 14(1.905,-0.25) 15(1.905,-0.75) 16(1.905,-1.25) 17(1.905,-1.75) 18(1.905,-2.25) 19(1.905,-2.75) 20(1.905,-3.25) 21(1.905,-3.75) 22(1.905,-4.25) 23(1.905,-4.75) 24(1.905,-5.25) 25(1.905,-5.75) 26(1.905,-6.25)
  rect 1.34x1 smd: M1(0.18,8.638) M2(0.18,-8.638)
Top Overlay:
  circle w0: c-1.341,7.867 r0.095
  lines w0.102: -2.995,6.9 -2.745,6.85 -2.745,-6.85 -2.995,-6.9 ; -2.04,7.98 cw(c-2.04,8.318) -2.253,8.056 cw(c-2.173,8.156) -2.301,8.156 -2.301,8.848 -2.438,8.985 -2.865,8.985 -2.995,8.85 -2.995,-6.9 ; -1.79,-7.98 ccw(c-1.915,-8.671) -2.253,-8.056 ccw(c-2.173,-8.156) -2.301,-8.156 -2.301,-8.848 -2.438,-8.985 -2.865,-8.985 -2.995,-8.85 -2.995,-6.9 ; -1.495,6.9 -1.245,6.85 -1.245,-6.85 -1.495,-6.9 ; -1.441,7.582 -1.005,7.867 -1.441,8.123 ; -0.54,-8.933 -0.54,-7.98 ccw(c-0.54,-8.319) -0.754,-8.056 ccw(c-0.673,-8.156) -0.801,-8.156 -0.801,-8.848 -0.939,-8.985 -1.365,-8.985 -1.495,-8.85 -1.495,-6.9 ; -0.54,7.98 cw(c-0.54,8.319) -0.754,8.056 cw(c-0.673,8.156) -0.801,8.156 -0.801,8.848 -0.939,8.985 -1.365,8.985 -1.495,8.85 -1.495,-6.9 ; 1.538,6.729 1.213,6.729 1.213,-6.729 1.559,-6.729 1.559,-8.44 ; 1.559,6.729 1.559,8.44
Top Solder:
  rectangle: 1.355,6.075 2.455,6.425
  rectangle: 1.355,5.575 2.455,5.925
  rectangle: 1.355,5.075 2.455,5.425
  rectangle: 1.355,4.575 2.455,4.925
  rectangle: 1.355,4.075 2.455,4.425
  rectangle: 1.355,3.575 2.455,3.925
  rectangle: 1.355,3.075 2.455,3.425
  rectangle: 1.355,2.575 2.455,2.925
  rectangle: 1.355,2.075 2.455,2.425
  rectangle: 1.355,1.575 2.455,1.925
  rectangle: 1.355,1.075 2.455,1.425
  rectangle: 1.355,0.575 2.455,0.925
  rectangle: 1.355,0.075 2.455,0.425
  rectangle: 1.355,-0.425 2.455,-0.075
  rectangle: 1.355,-0.925 2.455,-0.575
  rectangle: 1.355,-1.425 2.455,-1.075
  rectangle: 1.355,-1.925 2.455,-1.575
  rectangle: 1.355,-2.425 2.455,-2.075
  rectangle: 1.355,-2.925 2.455,-2.575
  rectangle: 1.355,-3.425 2.455,-3.075
  rectangle: 1.355,-3.925 2.455,-3.575
  rectangle: 1.355,-4.425 2.455,-4.075
  rectangle: 1.355,-4.925 2.455,-4.575
  rectangle: 1.355,-5.425 2.455,-5.075
  rectangle: 1.355,-5.925 2.455,-5.575
  rectangle: 1.355,-6.425 2.455,-6.075
Mechanical 16:
  rectangle: 0.105,-8.95 0.805,-8.425
  rectangle: -0.445,-8.95 0.105,-8.15
  rectangle: 0.105,-8.95 0.805,-8.425
  rectangle: -0.445,-8.95 0.105,-8.15
  rectangle: 0.105,8.425 0.805,8.95
  rectangle: -0.445,8.15 0.105,8.95
  rectangle: 1.255,6.15 1.98,6.35
  rectangle: 1.255,5.65 1.98,5.85
  rectangle: 1.255,5.15 1.98,5.35
  rectangle: 1.255,4.65 1.98,4.85
  rectangle: 1.255,4.15 1.98,4.35
  rectangle: 1.255,3.65 1.98,3.85
  rectangle: 1.255,3.15 1.98,3.35
  rectangle: 1.255,2.65 1.98,2.85
  rectangle: 1.255,2.15 1.98,2.35
  rectangle: 1.255,1.65 1.98,1.85
  rectangle: 1.255,1.15 1.98,1.35
  rectangle: 1.255,0.65 1.98,0.85
  rectangle: 1.255,0.15 1.98,0.35
  rectangle: 1.255,-0.35 1.98,-0.15
  rectangle: 1.255,-0.85 1.98,-0.65
  rectangle: 1.255,-1.35 1.98,-1.15
  rectangle: 1.255,-1.85 1.98,-1.65
  rectangle: 1.255,-2.35 1.98,-2.15
  rectangle: 1.255,-2.85 1.98,-2.65
  rectangle: 1.255,-3.35 1.98,-3.15
  rectangle: 1.255,-3.85 1.98,-3.65
  rectangle: 1.255,-4.35 1.98,-4.15
  rectangle: 1.255,-4.85 1.98,-4.65
  rectangle: 1.255,-5.35 1.98,-5.15
  rectangle: 1.255,-5.85 1.98,-5.65
  rectangle: 1.255,-6.35 1.98,-6.15
  lines w0.102: -0.54,-8.933 0.512,-8.933 0.512,-8.45 -0.019,-8.45 -0.019,-8.303 0.63,-8.303 0.63,-7.957 0.858,-7.957 0.858,-8.44 1.559,-8.44 ; -0.54,7.98 -0.54,8.933 0.512,8.933 0.512,8.45 -0.019,8.45 -0.019,8.303 0.63,8.303 0.63,7.957 0.858,7.957 0.858,8.44 1.559,8.44
  text "Upper-contact" at -0.5,7.5 h0.35

## XF2L-3025-1 [mm]
pads (32):
  rect 1x0.25 smd: 1(1.905,7.25) 2(1.905,6.75) 3(1.905,6.25) 4(1.905,5.75) 5(1.905,5.25) 6(1.905,4.75) 7(1.905,4.25) 8(1.905,3.75) 9(1.905,3.25) 10(1.905,2.75) 11(1.905,2.25) 12(1.905,1.75) 13(1.905,1.25) 14(1.905,0.75) 15(1.905,0.25) 16(1.905,-0.25) 17(1.905,-0.75) 18(1.905,-1.25) 19(1.905,-1.75) 20(1.905,-2.25) 21(1.905,-2.75) 22(1.905,-3.25) 23(1.905,-3.75) 24(1.905,-4.25) 25(1.905,-4.75) 26(1.905,-5.25) 27(1.905,-5.75) 28(1.905,-6.25) 29(1.905,-6.75) 30(1.905,-7.25)
  rect 1.34x1 smd: M1(0.18,9.638) M2(0.18,-9.638)
Top Overlay:
  circle w0: c-1.341,8.867 r0.095
  lines w0.102: -2.995,-7.9 -2.745,-7.85 -2.745,7.85 -2.995,7.9 ; -2.04,-8.98 ccw(c-2.04,-9.318) -2.253,-9.056 ccw(c-2.173,-9.156) -2.301,-9.156 -2.301,-9.848 -2.438,-9.985 -2.865,-9.985 -2.995,-9.85 -2.995,9.85 -2.865,9.985 -2.438,9.985 -2.301,9.848 -2.301,9.156 ccw(c-2.173,9.156) -2.253,9.056 ccw(c-2.04,9.318) -2.04,8.98 ; -1.495,-7.9 -1.245,-7.85 -1.245,7.85 -1.495,7.9 ; -1.441,8.582 -1.005,8.867 -1.441,9.123 ; -0.54,-9.933 -0.54,-8.98 ccw(c-0.54,-9.319) -0.754,-9.056 ccw(c-0.673,-9.156) -0.801,-9.156 -0.801,-9.848 -0.939,-9.985 -1.365,-9.985 -1.495,-9.85 -1.495,9.85 -1.365,9.985 -0.939,9.985 -0.801,9.848 -0.801,9.156 ccw(c-0.673,9.156) -0.754,9.056 ccw(c-0.54,9.319) -0.54,8.98 ; 1.538,7.729 1.213,7.729 1.213,-7.729 1.559,-7.729 1.559,-9.44 ; 1.559,7.729 1.559,9.44
Top Solder:
  rectangle: 1.355,7.075 2.455,7.425
  rectangle: 1.355,6.575 2.455,6.925
  rectangle: 1.355,6.075 2.455,6.425
  rectangle: 1.355,5.575 2.455,5.925
  rectangle: 1.355,5.075 2.455,5.425
  rectangle: 1.355,4.575 2.455,4.925
  rectangle: 1.355,4.075 2.455,4.425
  rectangle: 1.355,3.575 2.455,3.925
  rectangle: 1.355,3.075 2.455,3.425
  rectangle: 1.355,2.575 2.455,2.925
  rectangle: 1.355,2.075 2.455,2.425
  rectangle: 1.355,1.575 2.455,1.925
  rectangle: 1.355,1.075 2.455,1.425
  rectangle: 1.355,0.575 2.455,0.925
  rectangle: 1.355,0.075 2.455,0.425
  rectangle: 1.355,-0.425 2.455,-0.075
  rectangle: 1.355,-0.925 2.455,-0.575
  rectangle: 1.355,-1.425 2.455,-1.075
  rectangle: 1.355,-1.925 2.455,-1.575
  rectangle: 1.355,-2.425 2.455,-2.075
  rectangle: 1.355,-2.925 2.455,-2.575
  rectangle: 1.355,-3.425 2.455,-3.075
  rectangle: 1.355,-3.925 2.455,-3.575
  rectangle: 1.355,-4.425 2.455,-4.075
  rectangle: 1.355,-4.925 2.455,-4.575
  rectangle: 1.355,-5.425 2.455,-5.075
  rectangle: 1.355,-5.925 2.455,-5.575
  rectangle: 1.355,-6.425 2.455,-6.075
  rectangle: 1.355,-6.925 2.455,-6.575
  rectangle: 1.355,-7.425 2.455,-7.075
Mechanical 16:
  rectangle: 0.105,-9.95 0.805,-9.425
  rectangle: -0.445,-9.95 0.105,-9.15
  rectangle: 0.105,-9.95 0.805,-9.425
  rectangle: -0.445,-9.95 0.105,-9.15
  rectangle: 0.105,9.425 0.805,9.95
  rectangle: -0.445,9.15 0.105,9.95
  rectangle: 1.255,7.15 1.98,7.35
  rectangle: 1.255,6.65 1.98,6.85
  rectangle: 1.255,6.15 1.98,6.35
  rectangle: 1.255,5.65 1.98,5.85
  rectangle: 1.255,5.15 1.98,5.35
  rectangle: 1.255,4.65 1.98,4.85
  rectangle: 1.255,4.15 1.98,4.35
  rectangle: 1.255,3.65 1.98,3.85
  rectangle: 1.255,3.15 1.98,3.35
  rectangle: 1.255,2.65 1.98,2.85
  rectangle: 1.255,2.15 1.98,2.35
  rectangle: 1.255,1.65 1.98,1.85
  rectangle: 1.255,1.15 1.98,1.35
  rectangle: 1.255,0.65 1.98,0.85
  rectangle: 1.255,0.15 1.98,0.35
  rectangle: 1.255,-0.35 1.98,-0.15
  rectangle: 1.255,-0.85 1.98,-0.65
  rectangle: 1.255,-1.35 1.98,-1.15
  rectangle: 1.255,-1.85 1.98,-1.65
  rectangle: 1.255,-2.35 1.98,-2.15
  rectangle: 1.255,-2.85 1.98,-2.65
  rectangle: 1.255,-3.35 1.98,-3.15
  rectangle: 1.255,-3.85 1.98,-3.65
  rectangle: 1.255,-4.35 1.98,-4.15
  rectangle: 1.255,-4.85 1.98,-4.65
  rectangle: 1.255,-5.35 1.98,-5.15
  rectangle: 1.255,-5.85 1.98,-5.65
  rectangle: 1.255,-6.35 1.98,-6.15
  rectangle: 1.255,-6.85 1.98,-6.65
  rectangle: 1.255,-7.35 1.98,-7.15
  lines w0.102: -0.54,-9.933 0.512,-9.933 0.512,-9.45 -0.019,-9.45 -0.019,-9.303 0.63,-9.303 0.63,-8.957 0.858,-8.957 0.858,-9.44 1.559,-9.44 ; -0.54,8.98 -0.54,9.933 0.512,9.933 0.512,9.45 -0.019,9.45 -0.019,9.303 0.63,9.303 0.63,8.957 0.858,8.957 0.858,9.44 1.559,9.44
  text "Upper-contact" at -0.5,8.5 h0.35

## XF2L-3035-1 [mm]
pads (32):
  rect 1x0.25 smd: 1(1.905,7.25) 2(1.905,6.75) 3(1.905,6.25) 4(1.905,5.75) 5(1.905,5.25) 6(1.905,4.75) 7(1.905,4.25) 8(1.905,3.75) 9(1.905,3.25) 10(1.905,2.75) 11(1.905,2.25) 12(1.905,1.75) 13(1.905,1.25) 14(1.905,0.75) 15(1.905,0.25) 16(1.905,-0.25) 17(1.905,-0.75) 18(1.905,-1.25) 19(1.905,-1.75) 20(1.905,-2.25) 21(1.905,-2.75) 22(1.905,-3.25) 23(1.905,-3.75) 24(1.905,-4.25) 25(1.905,-4.75) 26(1.905,-5.25) 27(1.905,-5.75) 28(1.905,-6.25) 29(1.905,-6.75) 30(1.905,-7.25)
  rect 1.34x1 smd: M1(0.18,9.638) M2(0.18,-9.638)
Top Overlay:
  circle w0: c-1.341,8.867 r0.095
  lines w0.102: -2.04,-8.98 ccw(c-2.04,-9.318) -2.253,-9.056 ccw(c-2.173,-9.156) -2.301,-9.156 -2.301,-9.848 -2.438,-9.985 -2.865,-9.985 -2.995,-9.85 -2.995,9.85 -2.865,9.985 -2.438,9.985 -2.301,9.848 -2.301,9.156 ccw(c-2.173,9.156) -2.253,9.056 ccw(c-2.04,9.318) -2.04,8.98 ; -1.441,8.582 -1.005,8.867 -1.441,9.123 ; -0.54,-9.933 -0.54,-8.98 ccw(c-0.54,-9.319) -0.754,-9.056 ccw(c-0.673,-9.156) -0.801,-9.156 -0.801,-9.848 -0.939,-9.985 -1.365,-9.985 -1.495,-9.85 -1.495,9.85 -1.365,9.985 -0.939,9.985 -0.801,9.848 -0.801,9.156 ccw(c-0.673,9.156) -0.754,9.056 ccw(c-0.54,9.319) -0.54,8.98 ; 1.538,7.729 1.213,7.729 1.213,-7.729 1.559,-7.729 1.559,-9.44 ; 1.559,7.729 1.559,9.44
Top Solder:
  rectangle: 1.355,7.075 2.455,7.425
  rectangle: 1.355,6.575 2.455,6.925
  rectangle: 1.355,6.075 2.455,6.425
  rectangle: 1.355,5.575 2.455,5.925
  rectangle: 1.355,5.075 2.455,5.425
  rectangle: 1.355,4.575 2.455,4.925
  rectangle: 1.355,4.075 2.455,4.425
  rectangle: 1.355,3.575 2.455,3.925
  rectangle: 1.355,3.075 2.455,3.425
  rectangle: 1.355,2.575 2.455,2.925
  rectangle: 1.355,2.075 2.455,2.425
  rectangle: 1.355,1.575 2.455,1.925
  rectangle: 1.355,1.075 2.455,1.425
  rectangle: 1.355,0.575 2.455,0.925
  rectangle: 1.355,0.075 2.455,0.425
  rectangle: 1.355,-0.425 2.455,-0.075
  rectangle: 1.355,-0.925 2.455,-0.575
  rectangle: 1.355,-1.425 2.455,-1.075
  rectangle: 1.355,-1.925 2.455,-1.575
  rectangle: 1.355,-2.425 2.455,-2.075
  rectangle: 1.355,-2.925 2.455,-2.575
  rectangle: 1.355,-3.425 2.455,-3.075
  rectangle: 1.355,-3.925 2.455,-3.575
  rectangle: 1.355,-4.425 2.455,-4.075
  rectangle: 1.355,-4.925 2.455,-4.575
  rectangle: 1.355,-5.425 2.455,-5.075
  rectangle: 1.355,-5.925 2.455,-5.575
  rectangle: 1.355,-6.425 2.455,-6.075
  rectangle: 1.355,-6.925 2.455,-6.575
  rectangle: 1.355,-7.425 2.455,-7.075
Mechanical 16:
  rectangle: 0.105,-9.95 0.805,-9.425
  rectangle: -0.445,-9.95 0.105,-9.15
  rectangle: 0.105,-9.95 0.805,-9.425
  rectangle: -0.445,-9.95 0.105,-9.15
  rectangle: 0.105,9.425 0.805,9.95
  rectangle: -0.445,9.15 0.105,9.95
  rectangle: 1.255,7.15 1.98,7.35
  rectangle: 1.255,6.65 1.98,6.85
  rectangle: 1.255,6.15 1.98,6.35
  rectangle: 1.255,5.65 1.98,5.85
  rectangle: 1.255,5.15 1.98,5.35
  rectangle: 1.255,4.65 1.98,4.85
  rectangle: 1.255,4.15 1.98,4.35
  rectangle: 1.255,3.65 1.98,3.85
  rectangle: 1.255,3.15 1.98,3.35
  rectangle: 1.255,2.65 1.98,2.85
  rectangle: 1.255,2.15 1.98,2.35
  rectangle: 1.255,1.65 1.98,1.85
  rectangle: 1.255,1.15 1.98,1.35
  rectangle: 1.255,0.65 1.98,0.85
  rectangle: 1.255,0.15 1.98,0.35
  rectangle: 1.255,-0.35 1.98,-0.15
  rectangle: 1.255,-0.85 1.98,-0.65
  rectangle: 1.255,-1.35 1.98,-1.15
  rectangle: 1.255,-1.85 1.98,-1.65
  rectangle: 1.255,-2.35 1.98,-2.15
  rectangle: 1.255,-2.85 1.98,-2.65
  rectangle: 1.255,-3.35 1.98,-3.15
  rectangle: 1.255,-3.85 1.98,-3.65
  rectangle: 1.255,-4.35 1.98,-4.15
  rectangle: 1.255,-4.85 1.98,-4.65
  rectangle: 1.255,-5.35 1.98,-5.15
  rectangle: 1.255,-5.85 1.98,-5.65
  rectangle: 1.255,-6.35 1.98,-6.15
  rectangle: 1.255,-6.85 1.98,-6.65
  rectangle: 1.255,-7.35 1.98,-7.15
  lines w0.102: -0.54,-9.933 0.512,-9.933 0.512,-9.45 -0.019,-9.45 -0.019,-9.303 0.63,-9.303 0.63,-8.957 0.858,-8.957 0.858,-9.44 1.559,-9.44 ; -0.54,8.98 -0.54,9.933 0.512,9.933 0.512,9.45 -0.019,9.45 -0.019,9.303 0.63,9.303 0.63,8.957 0.858,8.957 0.858,9.44 1.559,9.44
  text "Lower-contact" at -0.5,8.5 h0.35

## XF2M-4015-1F [mm]
pads (42):
  rect 1.1x0.25 smd: 1(2.54,9.75) 2(2.54,9.25) 3(2.54,8.75) 4(2.54,8.25) 5(2.54,7.75) 6(2.54,7.25) 7(2.54,6.75) 8(2.54,6.25) 9(2.54,5.75) 10(2.54,5.25) 11(2.54,4.75) 12(2.54,4.25) 13(2.54,3.75) 14(2.54,3.25) 15(2.54,2.75) 16(2.54,2.25) 17(2.54,1.75) 18(2.54,1.25) 19(2.54,0.75) 20(2.54,0.25) 21(2.54,-0.25) 22(2.54,-0.75) 23(2.54,-1.25) 24(2.54,-1.75) 25(2.54,-2.25) 26(2.54,-2.75) 27(2.54,-3.25) 28(2.54,-3.75) 29(2.54,-4.25) 30(2.54,-4.75) 31(2.54,-5.25) 32(2.54,-5.75) 33(2.54,-6.25) 34(2.54,-6.75) 35(2.54,-7.25) 36(2.54,-7.75) 37(2.54,-8.25) 38(2.54,-8.75) 39(2.54,-9.25) 40(2.54,-9.75)
  rect 1.5x1.7 smd: M1(-1.36,11.4) M2(-1.36,-11.4)
Top Overlay:
  lines w0.102: -2.31,-11.7 -2.31,-10.35 ; -2.31,11.7 -2.31,10.35 ; -0.46,-11.7 1.99,-11.7 2.49,-11.2 2.49,-10.35 ; -0.46,11.7 1.99,11.7 2.49,11.2 2.49,10.35 ; -2.31,-10.35 -1.91,-9.95 -1.91,9.95 -2.31,10.35 ; -2.31,-10.35 -2.31,10.35
Top Solder:
  rectangle: 1.965,9.6 3.115,9.9
  rectangle: 1.965,9.1 3.115,9.4
  rectangle: 1.965,8.6 3.115,8.9
  rectangle: 1.965,8.1 3.115,8.4
  rectangle: 1.965,7.6 3.115,7.9
  rectangle: 1.965,7.1 3.115,7.4
  rectangle: 1.965,6.6 3.115,6.9
  rectangle: 1.965,6.1 3.115,6.4
  rectangle: 1.965,5.6 3.115,5.9
  rectangle: 1.965,5.1 3.115,5.4
  rectangle: 1.965,4.6 3.115,4.9
  rectangle: 1.965,4.1 3.115,4.4
  rectangle: 1.965,3.6 3.115,3.9
  rectangle: 1.965,3.1 3.115,3.4
  rectangle: 1.965,2.6 3.115,2.9
  rectangle: 1.965,2.1 3.115,2.4
  rectangle: 1.965,1.6 3.115,1.9
  rectangle: 1.965,1.1 3.115,1.4
  rectangle: 1.965,0.6 3.115,0.9
  rectangle: 1.965,0.1 3.115,0.4
  rectangle: 1.965,-0.4 3.115,-0.1
  rectangle: 1.965,-0.9 3.115,-0.6
  rectangle: 1.965,-1.4 3.115,-1.1
  rectangle: 1.965,-1.9 3.115,-1.6
  rectangle: 1.965,-2.4 3.115,-2.1
  rectangle: 1.965,-2.9 3.115,-2.6
  rectangle: 1.965,-3.4 3.115,-3.1
  rectangle: 1.965,-3.9 3.115,-3.6
  rectangle: 1.965,-4.4 3.115,-4.1
  rectangle: 1.965,-4.9 3.115,-4.6
  rectangle: 1.965,-5.4 3.115,-5.1
  rectangle: 1.965,-5.9 3.115,-5.6
  rectangle: 1.965,-6.4 3.115,-6.1
  rectangle: 1.965,-6.9 3.115,-6.6
  rectangle: 1.965,-7.4 3.115,-7.1
  rectangle: 1.965,-7.9 3.115,-7.6
  rectangle: 1.965,-8.4 3.115,-8.1
  rectangle: 1.965,-8.9 3.115,-8.6
  rectangle: 1.965,-9.4 3.115,-9.1
  rectangle: 1.965,-9.9 3.115,-9.6
Mechanical 16:
  rectangle: 1.965,9.675 2.84,9.825
  rectangle: 1.965,9.175 2.84,9.325
  rectangle: 1.965,8.675 2.84,8.825
  rectangle: 1.965,8.175 2.84,8.325
  rectangle: 1.965,7.675 2.84,7.825
  rectangle: 1.965,7.175 2.84,7.325
  rectangle: 1.965,6.675 2.84,6.825
  rectangle: 1.965,6.175 2.84,6.325
  rectangle: 1.965,5.675 2.84,5.825
  rectangle: 1.965,5.175 2.84,5.325
  rectangle: 1.965,4.675 2.84,4.825
  rectangle: 1.965,4.175 2.84,4.325
  rectangle: 1.965,3.675 2.84,3.825
  rectangle: 1.965,3.175 2.84,3.325
  rectangle: 1.965,2.675 2.84,2.825
  rectangle: 1.965,2.175 2.84,2.325
  rectangle: 1.965,1.675 2.84,1.825
  rectangle: 1.965,1.175 2.84,1.325
  rectangle: 1.965,0.675 2.84,0.825
  rectangle: 1.965,0.175 2.84,0.325
  rectangle: 1.965,-0.325 2.84,-0.175
  rectangle: 1.965,-0.825 2.84,-0.675
  rectangle: 1.965,-1.325 2.84,-1.175
  rectangle: 1.965,-1.825 2.84,-1.675
  rectangle: 1.965,-2.325 2.84,-2.175
  rectangle: 1.965,-2.825 2.84,-2.675
  rectangle: 1.965,-3.325 2.84,-3.175
  rectangle: 1.965,-3.825 2.84,-3.675
  rectangle: 1.965,-4.325 2.84,-4.175
  rectangle: 1.965,-4.825 2.84,-4.675
  rectangle: 1.965,-5.325 2.84,-5.175
  rectangle: 1.965,-5.825 2.84,-5.675
  rectangle: 1.965,-6.325 2.84,-6.175
  rectangle: 1.965,-6.825 2.84,-6.675
  rectangle: 1.965,-7.325 2.84,-7.175
  rectangle: 1.965,-7.825 2.84,-7.675
  rectangle: 1.965,-8.325 2.84,-8.175
  rectangle: 1.965,-8.825 2.84,-8.675
  rectangle: 1.965,-9.325 2.84,-9.175
  rectangle: 1.965,-9.825 2.84,-9.675
  lines w0.102: -2.31,-11.7 -1.91,-11.7 -1.91,-12 -0.91,-12 -0.91,-11.7 -0.46,-11.7 ; -2.31,10.75 -1.71,11.1 -2.31,11.45 ; -2.31,11.7 -1.91,11.7 -1.91,12 -0.91,12 -0.91,11.7 -0.46,11.7 ; 2.49,-10.35 1.915,-10.35 1.915,10.35 2.49,10.35